# Altium integrated library Texas_Instruments_TLV1117-33IDRJR.IntLib: 1 symbol
Pins are listed as number, name and electrical type; pins without a type are passive.

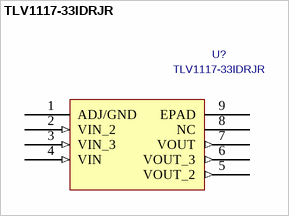
[diagram p0: symbol TLV1117-33IDRJR]

## TLV1117-33IDRJR
designator U?
C: Copyright (C) 2015 Accelerated Designs. All rights reserved; Vendor: Texas Instruments; Built_By: EMA_UL_Team; Value: TLV1117-33IDRJR; Manufacturer_Part_Number: TLV1117-33IDRJR; Manufacturer: Texas Instruments
footprint DRJ8_3X2P2
pins: 1 ADJ/GND (power), 2 VIN_2 (in), 3 VIN_3 (in), 4 VIN (in), 5 VOUT_2 (out), 6 VOUT_3 (out), 7 VOUT (out), 8 NC, 9 EPAD